# Altium footprint library CMT-0502-75-SMT-TR.PcbLib: 1 footprints
Each footprint in its own frame and in the unit in brackets; x right, y up, seen from the top. Pads: shape width x height; smd on the part's side, far side on the other; paste and mask are expansions set on the pad; w line width, h text height; cw(c..) or ccw(c..) is an arc to the next point about the centre after c.
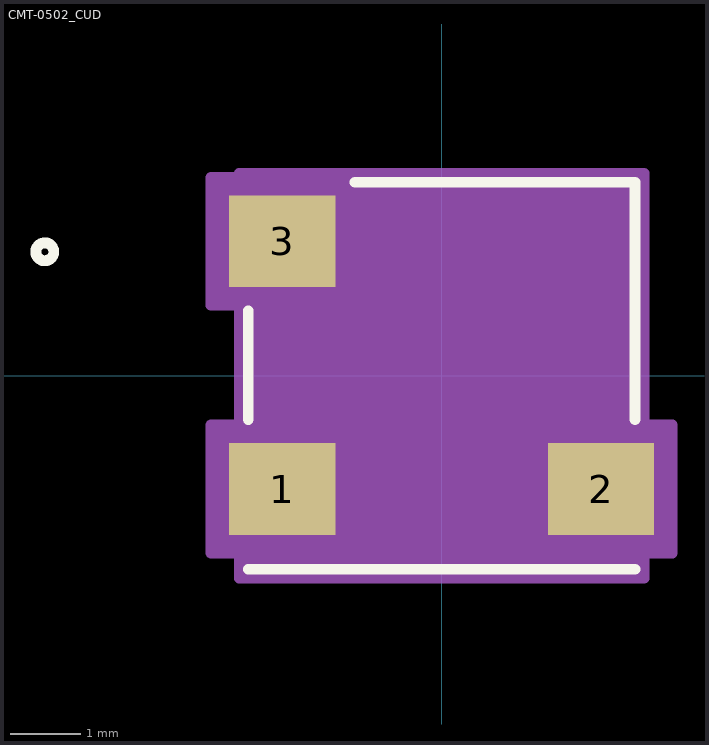
[diagram p0: the footprint, top view; thin cyan lines are the x and y axes]

## CMT-0502_CUD [mil]
pads (3):
  rect 59x51 smd paste-25.5 mask+0: 1(-88.58,-62.9) 2(88.58,-62.9) 3(-88.58,74.71)
Top Overlay:
  circle w6: c-220.48,68.9 r5
  lines w6: -107.5,-107.5 107.5,-107.5 ; -107.5,-24.3 -107.5,36.11 ; -48.2,107.5 107.5,107.5 107.5,-24.3
Mechanical 13:
  circle w0: c-59.08,68.9 r3
  lines w0: -12,102.5 ccw(c0,102.5) 12,102.5
  lines w1: -102.5,-102.5 102.5,-102.5 102.5,102.5 -102.5,102.5 -102.5,-102.5
Mechanical 15:
  region: -128.08,-98.4 -112.5,-98.4 -112.5,-112.5 112.5,-112.5 112.5,-98.4 128.08,-98.4 128.08,-27.4 112.5,-27.4 112.5,112.5 -112.5,112.5 -112.5,110.21 -128.08,110.21 -128.08,39.21 -112.5,39.21 -112.5,-27.4 -128.08,-27.4
  lines w6: -128.08,-98.4 -112.5,-98.4 -112.5,-112.5 112.5,-112.5 112.5,-98.4 128.08,-98.4 128.08,-27.4 112.5,-27.4 112.5,112.5 -112.5,112.5 -112.5,110.21 -128.08,110.21 -128.08,39.21 -112.5,39.21 -112.5,-27.4 -128.08,-27.4 -128.08,-98.4